# Altium footprint library GM803 封装库.PcbLib: 3 footprints
Each footprint in its own frame and in the unit in brackets; x right, y up, seen from the top. Pads: shape width x height; smd on the part's side, far side on the other; paste and mask are expansions set on the pad; w line width, h text height; cw(c..) or ccw(c..) is an arc to the next point about the centre after c.
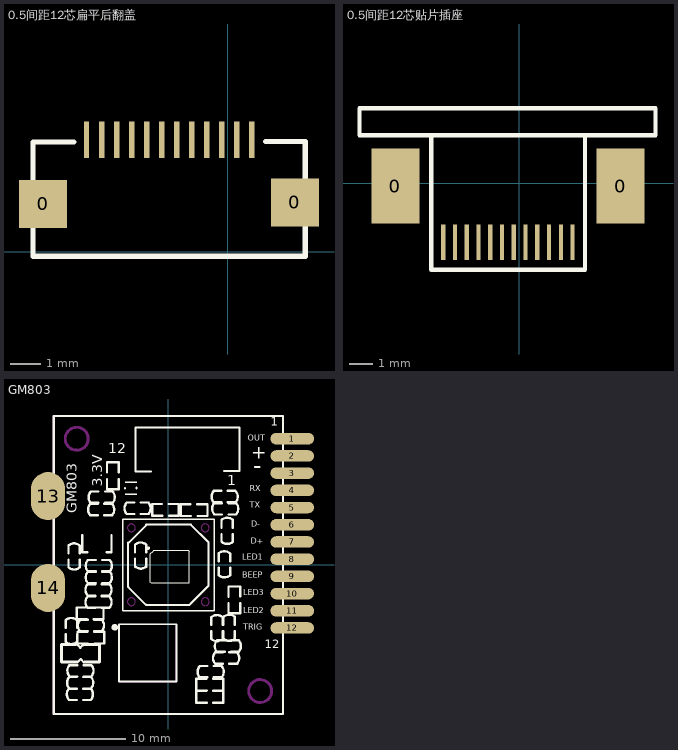
[diagram p0: the footprints below, top view; thin cyan lines are the x and y axes]

## 0.5间距12芯扁平后翻盖 [mil]
height 27.56
pads (14):
  rect 62.99x62.99 smd: 0(-242,63) 0(88,65)
  rect 7x47.24 smd: 1(-185,147.02) 2(-165.31,147.02) 3(-145.63,147.02) 4(-125.94,147.02) 5(-106.26,147.02) 6(-86.57,147.02) 7(-66.89,147.02) 8(-47.2,147.02) 9(-27.52,147.02) 10(-7.83,147.02) 11(11.85,147.02) 12(31.54,147.02)
Top Overlay:
  lines w7: -202,144 -255.08,144 -255.08,-5.59 101.61,-5.59 101.61,144.67 49.67,144.67

## 0.5间距12芯贴片插座 [mil]
height 27.56
pads (14):
  rect 80x125 smd: 0(-207,-5) 0(169.89,-5)
  rect 7x60 smd: 1(-127,-99.02) 2(-107.31,-99.02) 3(-87.63,-99.02) 4(-67.94,-99.02) 5(-48.26,-99.02) 6(-28.57,-99.02) 7(-8.89,-99.02) 8(10.8,-99.02) 9(30.48,-99.02) 10(50.17,-99.02) 11(69.85,-99.02) 12(89.54,-99.02)
Top Overlay:
  lines w7: -147,80 -147,-145 ; 110.5,80 110.5,-145 ; -267,80 -267,125 ; -267,80 60.01,80 228,80 ; -267,80 20.01,80 228,80 ; -267,125 228,125 ; -267,125 228,125 ; -147,-145 110.5,-145 ; -147,-145 110.5,-145 ; 228,80 228,125

## GM803 [mm]
height 0.7
pads (14):
  oval 3.8x1 smd: 1(10.8,11) 2(10.8,9.5) 3(10.8,8) 4(10.8,6.5) 5(10.8,5) 6(10.8,3.5) 7(10.8,2) 8(10.8,0.5) 9(10.8,-1) 10(10.8,-2.5) 11(10.8,-4) 12(10.8,-5.5)
  oval 3x4.2 smd: 13(-10.5,6) 14(-10.5,-2)
Top Overlay:
  drawing of 244 lines, arcs and shapes, not listed
  text "3.3V" at -5.791,6.807 h0.89
  text "1" at 5.131,6.934 h0.89
  text "12" at -5.232,9.728 h0.89
  text "OUT" at 6.909,10.668 h0.89
  text "+" at 7.239,8.865 h2.03
  text "-" at 7.417,7.417 h2.54
  text "RX" at 7.087,6.248 h0.89
  text "TX" at 7.087,4.801 h0.89
  text "D-" at 7.214,3.15 h0.89
  text "D+" at 7.163,1.676 h0.89
  text "LED1" at 6.452,0.254 h0.89
  text "BEEP" at 6.426,-1.295 h0.89
  text "LED2" at 6.502,-4.369 h0.89
  text "LED3" at 6.528,-2.819 h0.89
  text "TRIG" at 6.502,-5.842 h0.89
  text "1" at 8.915,11.887 h1.27
  text "12" at 8.407,-7.544 h1.27
  text "GM803" at -7.696,4.496 h1.52
Keep-Out Layer:
  circle w0.1: c3.207,3.233 r0.34
  circle w0.1: c-3.233,3.233 r0.34
  circle w0.1: c-3.233,-3.207 r0.34
  circle w0.1: c3.207,-3.207 r0.34
  circle w0.254: c-8,11 r1
  circle w0.254: c8,-11 r1
  lines w0.178: -10,-13 -10,13 10,13 10,-13 -10,-13
Mechanical 15:
  lines w0.05: -4.303,-10.171 0.697,-10.171 0.697,-5.171 -4.303,-5.171 -4.303,-10.171
3D body: height 0.5, standoff 0, extent -8.196,-10.508 -7.196,-10.008
3D body: height 0.5, standoff 0, extent 4.885,2.472 5.385,3.472
3D body: height 0.35, standoff 0, extent -5.1,7.262 -4.6,8.262
3D body: height 0.35, standoff 0, extent 5.489,-3.538 5.989,-2.538
3D body: height 0.35, standoff 0, extent -7.322,-4.465 -6.322,-3.965
3D body: height 0.5, standoff 0, extent -7.256,-5.537 -6.256,-5.037
3D body: height 0.5, standoff 0, extent 3.996,-6.012 4.496,-5.012
3D body: height 0.5, standoff 0, extent -6.596,-2.405 -5.596,-1.905
3D body: height 0.5, standoff 0, extent -8.484,0.237 -7.984,1.237
3D body: height 0.5, standoff 0, extent 5.063,-5.986 5.563,-4.986
3D body: height 0.5, standoff 0, extent -6.367,4.572 -5.367,5.072
3D body: height 0.5, standoff 0, extent -8.704,-6.266 -8.204,-5.266
3D body: height 0.5, standoff 0, extent 4.682,-7.341 5.682,-6.841
3D body: height 0.5, standoff 0, extent -6.571,-0.33 -5.571,0.17
3D body: height 0.5, standoff 0, extent -6.317,5.639 -5.317,6.139
3D body: height 0.5, standoff 0, extent -8.171,-9.466 -7.171,-8.966
3D body: height 0.5, standoff 0, extent -8.222,-11.524 -7.222,-11.024
3D body: height 0.5, standoff 0, extent 3.183,-9.576 4.183,-9.076
3D body: height 0.5, standoff 0, extent 4.529,-8.382 5.529,-7.882
3D body: height 0.5, standoff 0, extent 4.402,5.69 5.402,6.19
3D body: height 0.5, standoff 0, extent -2.659,0.313 -2.159,1.313
3D body: height 0.5, standoff 0, extent -3.192,4.674 -2.192,5.174
3D body: height 0.5, standoff 0, extent 4.623,-0.449 5.123,0.551
3D body: height 0.51, standoff 0, extent -8.407,-8.077 -8.204,-7.315
3D body: height 0.51, standoff 0, extent -7.086,-8.077 -6.883,-7.315
3D body: height 0.51, standoff 0, extent -8.204,-8.077 -7.087,-7.315
3D body: height 0.35, standoff 0, extent -0.764,4.549 0.236,5.049
3D body: height 0.35, standoff 0, extent 1.745,4.527 2.745,5.027
3D body: height 0.35, standoff 0, extent -7.267,-6.601 -6.267,-6.101
3D body: height 0.35, standoff 0, extent 3.097,-11.758 4.097,-11.258
3D body: height 0.35, standoff 0, extent 3.097,-10.691 4.097,-10.191
3D body: height 0.6, standoff 0.05, extent -4.303,-10.171 0.697,-5.171
3D body: height 0.5, standoff 0, extent 4.453,4.656 5.453,5.156
3D body: height 0.5, standoff 0, extent -6.596,-3.505 -5.596,-3.005
3D body: height 0.5, standoff 0, extent -6.571,-1.346 -5.571,-0.846